# Altium schematic symbol library LibTim_Connectors.SchLib: 14 symbols
Pins are listed as number, name and electrical type; pins without a type are passive.

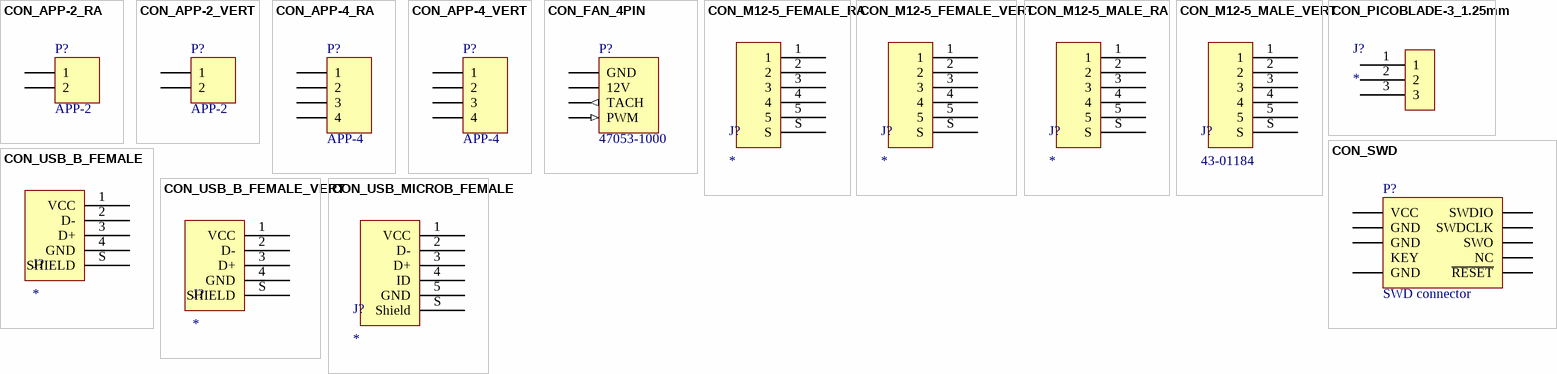
[diagram p0: symbols CON_APP-2_RA to CON_USB_MICROB_FEMALE]

## CON_APP-2_RA
designator P?, comment APP-2
Manufacturer: Anderson Power Products; PartNumber: 1336G1; Pins: 2
signal-integrity model Connector
footprint APP_1336G1_2x1RA
pins: 1 "RED", 2

## CON_APP-2_VERT
designator P?, comment APP-2
Manufacturer: Anderson Power Products; PartNumber: 1335G1; PackageReference: APP_1335G1_2x1VERT; Pins: 2
signal-integrity model Connector
footprint APP_1335G1_2x1VERT
pins: 1 "RED", 2

## CON_APP-4_RA
designator P?, comment APP-4
Manufacturer: Anderson Power Products; PartNumber: 1336G1; Pins: 4
signal-integrity model Connector
footprint APP_1336G1_2x2RA
pins: 1, 2, 3, 4

## CON_APP-4_VERT
designator P?, comment APP-4
Manufacturer: Anderson Power Products; PartNumber: 1335G1; PackageReference: APP_1335G1_2x2VERT; Pins: 4
signal-integrity model Connector
footprint APP_1335G1_2x2VERT
pins: 1, 2, 3, 4

## CON_FAN_4PIN
designator P?, comment 47053-1000
Manufacturer: Molex; PartNumber: 47053-1000; PackageReference: MOLEX_47053-1000; Pins: 4
signal-integrity model Connector
footprint MOLEX_47053-1000 (KK® 254 Vertical Header, with Friction Lock, 4 Circuits, PC Tail Length: 3.50mm)
pins: 1 GND (power), 2 12V (power), 3 TACH (out), 4 PWM (in)

## CON_M12-5_FEMALE_RA
designator J?
5 Pos Female socket M12x1 angled,  backmounting, dip solder; PartNumber: 43-01199; Manufacturer: Conec; PackageReference: CONEC_43-01181; Pins: 5
footprint CONEC_43-01199
pins: 1, 2, 3, 4, 5, S

## CON_M12-5_FEMALE_VERT
designator J?
5 Pos Female socket M12x1 axial,  frontmounting, dip solder; PartNumber: 43-01181; Manufacturer: Conec; PackageReference: CONEC_43-01181; Pins: 5
footprint CONEC_43-01180
pins: 1, 2, 3, 4, 5, S

## CON_M12-5_MALE_RA
designator J?
5 Pos Male socket M12x1 angled,  backmounting, dip solder; PartNumber: 43-01207; Manufacturer: Conec; PackageReference: CONEC_43-01207; Pins: 5
footprint CONEC_43-01207
pins: 1, 2, 3, 4, 5, S

## CON_M12-5_MALE_VERT
designator J?, comment 43-01184
Manufacturer: Conec; PartNumber: 43-01184; Pins: 5
footprint CONEC_43-01184
pins: 1, 2, 3, 4, 5, S

## CON_PICOBLADE-3_1.25mm
designator J?
Manufacturer: Molex; PartNumber: 53047-0310; PackageReference: MOLEX_53047-0310; Pins: 3; ComponentLink1Description: Datasheet; ComponentLink1URL: http://www.molex.com/pdm_docs/sd/530470310_sd.pdf
footprint MOLEX_53047-0310
pins: 1, 2, 3

## CON_SWD
designator P?, comment SWD connector
Manufacturer: Samtec; PartNumber: FTSH-105-01-L-DV; ComponentLink1Description: Datasheet; PackageReference: SAMTEC_FTSH-105-01-L-DV; Pins: 10
signal-integrity model Connector
footprint SAMTEC_FTSH-105-01-L-DV
pins: 1 VCC, 2 SWDIO, 3 GND, 4 SWDCLK, 5 GND, 6 SWO, 7 KEY, 8 NC, 9 GND, 10 ~{RESET}

## CON_USB_B_FEMALE
designator J?
USB B Female; PartNumber: 61729-1011BLF; Manufacturer: FCI; PackageReference: FCI_61729-1011BLF; Pins: 4
footprint FCI_61729-1011BLF
pins: 1 VCC, 2 D-, 3 D+, 4 GND, S SHIELD

## CON_USB_B_FEMALE_VERT
designator J?
USB_B Female VERT; PartNumber: M701-330442; Manufacturer: Harwin; PackageReference: HARWIN_M701-330442; Pins: 4
footprint HARWIN_M701-330442
pins: 1 VCC, 2 D-, 3 D+, 4 GND, S SHIELD

## CON_USB_MICROB_FEMALE
designator J?
USB Micro-B; PartNumber: 10103594-0001LF; Manufacturer: FCI; PackageReference: FCI_10103594-0001LF; Pins: 5
footprint FCI_10103594-0001LF
pins: 1 VCC, 2 D-, 3 D+, 4 ID, 5 GND, S Shield